# Altium schematic symbol library SCH - OPAMP - TI MAX9638.SCHLIB: 1 symbol
Pins are listed as number, name and electrical type; pins without a type are passive.

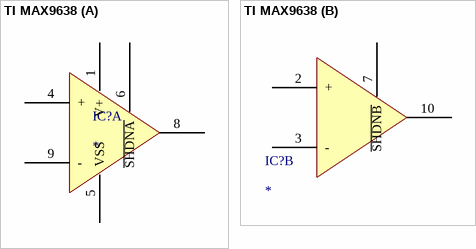
[diagram p0: symbol TI MAX9638]

## TI MAX9638
designator IC?
part A pins: 1 V+ (power), 4 +, 5 VSS (power), 6 ~{SHDNA}, 8 OUT, 9 -
part B pins: 2 +, 3 -, 7 ~{SHDNB}, 10 OUTB